# Altium schematic symbol library MAX809SQ463T1G.Schlib: 1 symbol
Pins are listed as number, name and electrical type; pins without a type are passive.

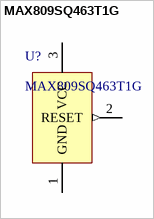
[diagram p0: symbol MAX809SQ463T1G]

## MAX809SQ463T1G
designator U?
Supervisor Push-Pull, Totem Pole 1 Channel SC-70-3 (SOT323)
pins: 1 GND (power), 2 RESET (out), 3 VCC (power)